# Altium schematic symbol library GF1M.Schlib: 1 symbol
Pins are listed as number, name and electrical type; pins without a type are passive.

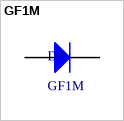
[diagram p0: symbol GF1M]

## GF1M
designator D?
Standard Recovery Rectifiers
pins: 1 A, 2 K